# Altium footprint library C0603.PcbLib: 1 footprints
Each footprint in its own frame and in the unit in brackets; x right, y up, seen from the top. Pads: shape width x height; smd on the part's side, far side on the other; paste and mask are expansions set on the pad; w line width, h text height; cw(c..) or ccw(c..) is an arc to the next point about the centre after c.
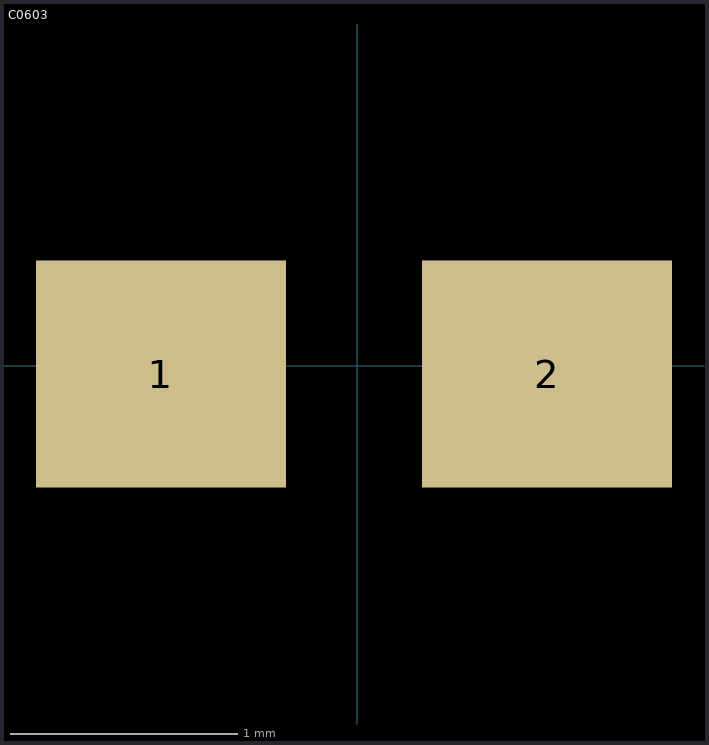
[diagram p0: the footprint, top view; thin cyan lines are the x and y axes]

## C0603 [mm]
pads (2):
  rect 1.1x1 smd: 1(-0.864,-0.037) 2(0.836,-0.037)
3D body: height 0.89, standoff -0.01, extent -1.31,-0.54 1.29,0.46